# Altium schematic symbol library CMT-7525-80-SMT-TR.SchLib: 1 symbol
Pins are listed as number, name and electrical type; pins without a type are passive.

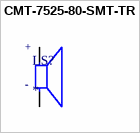
[diagram p0: symbol CMT-7525-80-SMT-TR]

## CMT-7525-80-SMT-TR
designator LS?
CMT-7525-80-SMT-TR; MF: {'manufacturer': u'CUI Devices'}; Package: None; Price: None; Value: *; MP: CMT-7525-80-SMT-TR; Availability: Unavailable
footprint XDCR_CMT-7525-80-SMT-TR
pins: N, P
text: +; -